# Altium footprint library PcbLib1.PcbLib: 1 footprints
Each footprint in its own frame and in the unit in brackets; x right, y up, seen from the top. Pads: shape width x height; smd on the part's side, far side on the other; paste and mask are expansions set on the pad; w line width, h text height; cw(c..) or ccw(c..) is an arc to the next point about the centre after c.
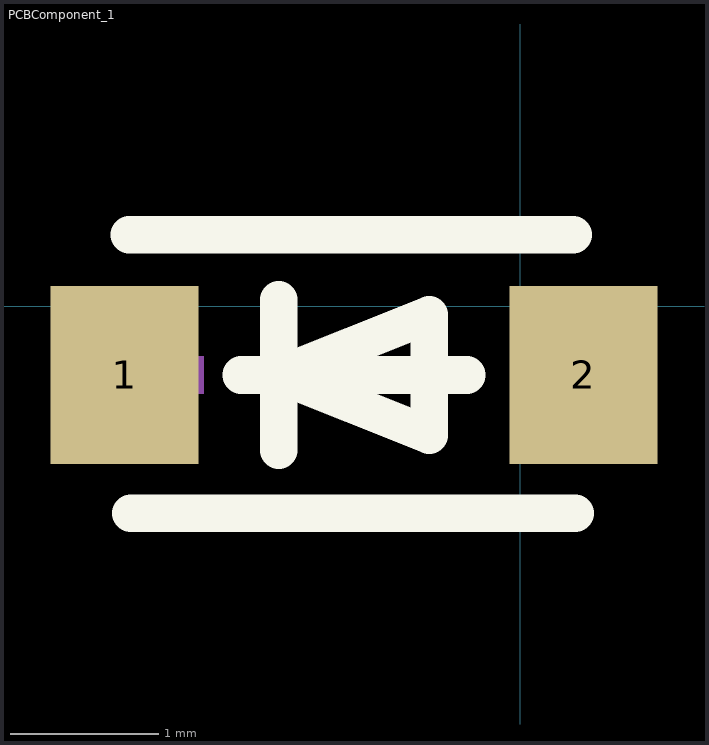
[diagram p0: the footprint, top view; thin cyan lines are the x and y axes]

## PCBComponent_1 [mm]
pads (2):
  rect 1x1.2 smd paste+0 mask+0.051: 1(-2.675,-0.464) 2(0.425,-0.464)
Top Overlay:
  lines w0.254: -2.645,0.483 0.355,0.483 ; -2.632,-1.397 0.368,-1.397 ; -1.887,-0.464 -0.363,-0.464 ; -1.633,-0.972 -1.633,0.044 ; -1.633,-0.464 -0.617,-0.87 -0.617,-0.057 -1.633,-0.464
Mechanical 15:
  region: -3.03,-0.337 -2.141,-0.337 -2.141,-0.591 -3.03,-0.591
  region: 0.346,-0.9 0.346,-0.011 0.6,-0.011 0.6,-0.9
  region: 0.018,-0.337 0.907,-0.337 0.907,-0.591 0.018,-0.591